# Altium footprint library Resistors.PcbLib: 73 footprints (part 2 of 5)
Each footprint in its own frame and in the unit in brackets; x right, y up, seen from the top. Pads: shape width x height; smd on the part's side, far side on the other; paste and mask are expansions set on the pad; w line width, h text height; cw(c..) or ccw(c..) is an arc to the next point about the centre after c.
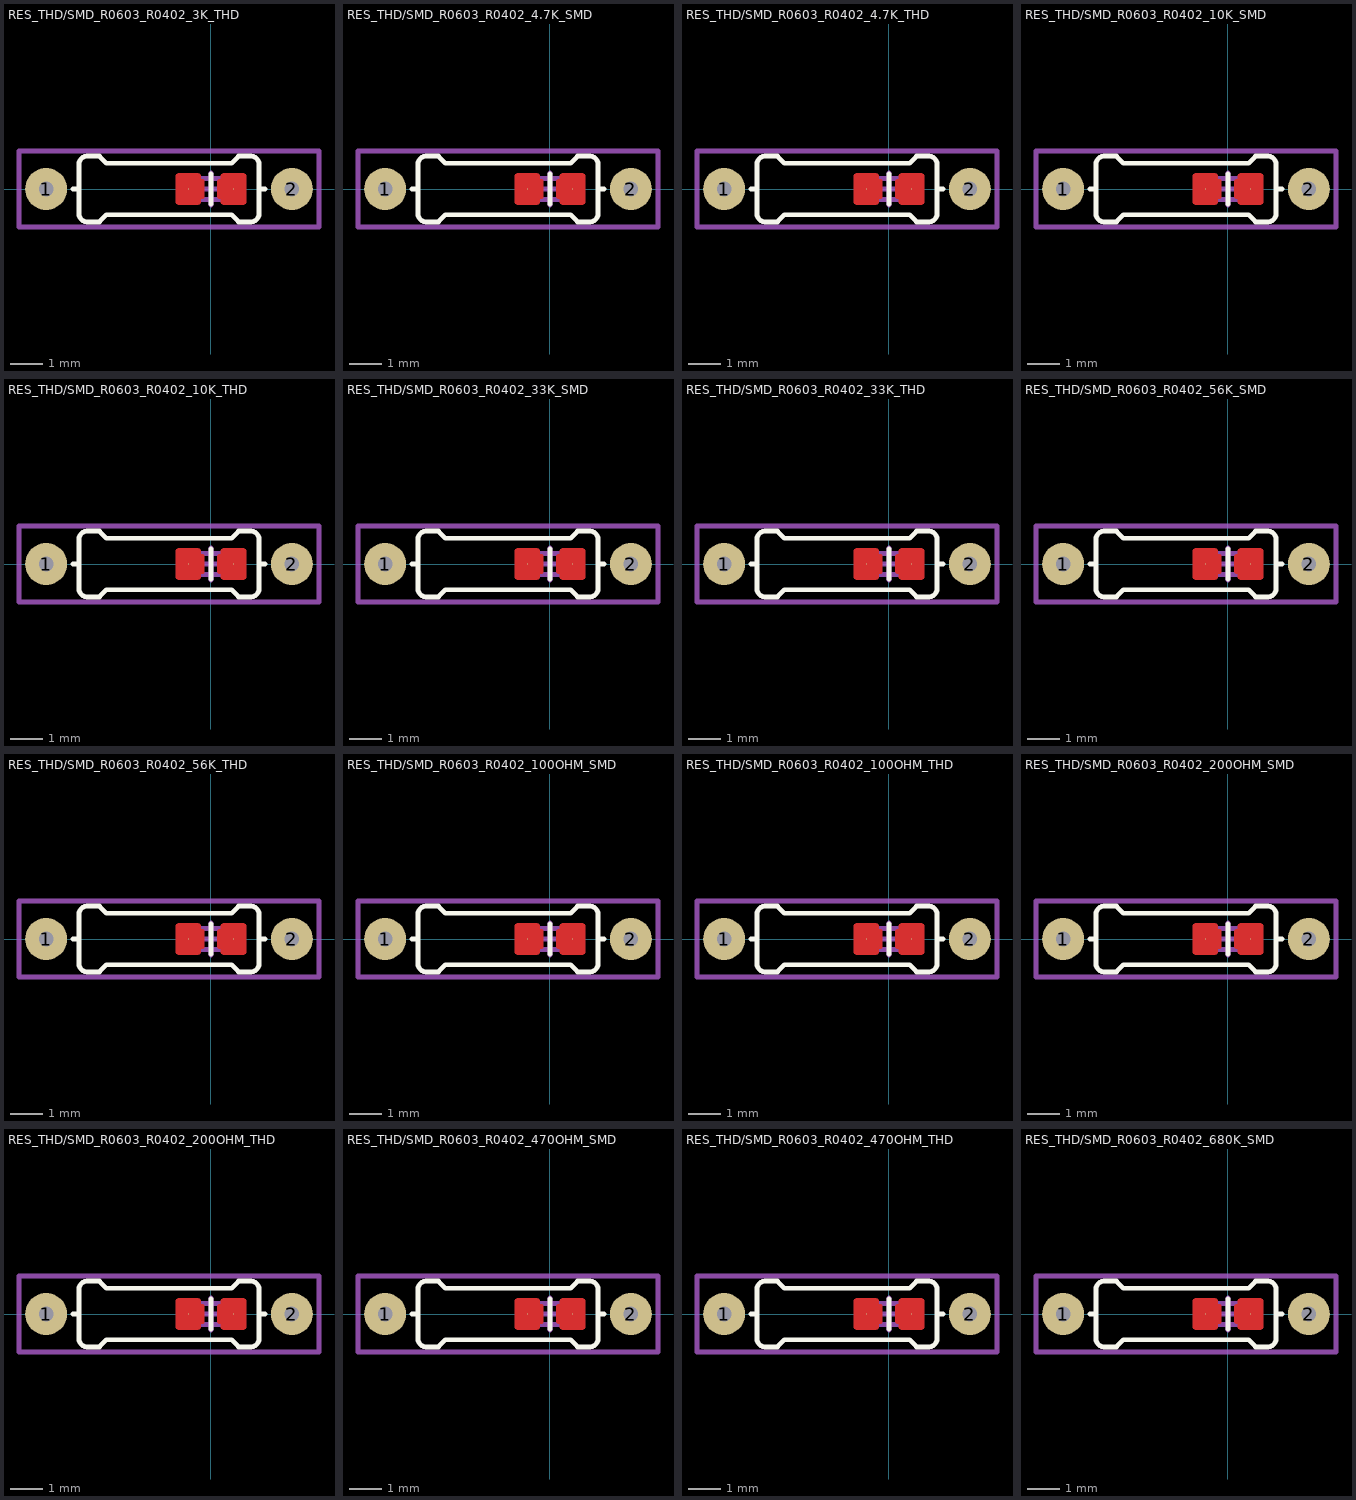
[diagram p1: the footprints below, top view; thin cyan lines are the x and y axes]

## RES_THD/SMD_R0603_R0402_3K_THD [mm] "Resistor, Through Hole"
pads (4):
  round 1.3 hole 0.45: 1(-5.11,0) 2(2.51,0)
  round 0.025 smd: 1(-0.7,0) 2(0.7,0)
Top Layer:
  region: 0.408,-0.495 0.993,-0.495 1.012,-0.495 1.048,-0.48 1.075,-0.453 1.09,-0.417 1.09,-0.398 1.09,-0.397 1.09,0.397 1.09,0.417 1.075,0.453 1.048,0.48 1.012,0.495 0.993,0.495 0.408,0.495 0.388,0.495 0.352,0.48 0.325,0.453 0.31,0.417 0.31,0.397 0.31,0.3 0.25,0.3 0.24,0.3 0.222,0.292 0.208,0.278 0.2,0.26 0.2,0.25 0.2,-0.25 0.2,-0.26 0.208,-0.278 0.222,-0.292 0.24,-0.3 0.25,-0.3 0.31,-0.3 0.31,-0.397 0.31,-0.417 0.325,-0.453 0.352,-0.48 0.388,-0.495
  region: -0.408,-0.495 -0.992,-0.495 -1.012,-0.495 -1.048,-0.48 -1.075,-0.453 -1.09,-0.417 -1.09,-0.398 -1.09,-0.397 -1.09,0.397 -1.09,0.417 -1.075,0.453 -1.048,0.48 -1.012,0.495 -0.993,0.495 -0.992,0.495 -0.407,0.495 -0.388,0.495 -0.352,0.48 -0.325,0.453 -0.31,0.417 -0.31,0.397 -0.31,0.3 -0.25,0.3 -0.24,0.3 -0.222,0.292 -0.208,0.278 -0.2,0.26 -0.2,0.25 -0.2,-0.25 -0.2,-0.26 -0.208,-0.278 -0.222,-0.292 -0.24,-0.3 -0.25,-0.3 -0.31,-0.3 -0.31,-0.397 -0.31,-0.417 -0.325,-0.453 -0.352,-0.48 -0.388,-0.495
Top Overlay:
  lines w0.15: -4.275,0 -4.14,0 ; 0,-0.475 0,0.475 ; 1.54,0 1.675,0 ; -4.092,-0.764 ccw(c-3.838,-0.764) -3.838,-1.018 -3.457,-1.018 -3.239,-0.8 0.639,-0.8 0.857,-1.018 1.238,-1.018 ccw(c1.238,-0.764) 1.492,-0.764 1.492,0.764 ccw(c1.238,0.764) 1.238,1.018 0.857,1.018 0.639,0.8 -3.239,0.8 -3.457,1.018 -3.838,1.018 ccw(c-3.838,0.764) -4.092,0.764 -4.092,-0.764
  text ".Comment" at -4.487,-0.383 h1.3
Top Designator:
  text ".Designator" at -2.503,-0.266 h1.3
Mechanical 13:
  lines w0.15: -0.7,-0.325 -0.7,0.325 0.7,0.325 0.7,-0.325 -0.7,-0.325
Mechanical 15:
  lines w0.003: -0.275,0.127 -0.274,0.127
  lines w0.15: -0.5,0 0.5,0 ; 0,-0.5 0,0.5 ; -5.95,-1.175 -5.95,1.175 3.35,1.175 3.35,-1.175 -5.95,-1.175
3D body "Ðåçèñòîð Âûâîäíîé Ãîðèçîíòàëüíûé 3 êÎì.stp": height 2.41, standoff -1.5, extent -5.325,-1.167 2.725,1.167

## RES_THD/SMD_R0603_R0402_4.7K_SMD [mm] "Resistor, Through Hole"
pads (4):
  round 1.3 hole 0.45: 1(-5.11,0) 2(2.51,0)
  round 0.025 smd: 1(-0.7,0) 2(0.7,0)
Top Layer:
  region: 0.408,-0.495 0.993,-0.495 1.012,-0.495 1.048,-0.48 1.075,-0.453 1.09,-0.417 1.09,-0.398 1.09,-0.397 1.09,0.397 1.09,0.417 1.075,0.453 1.048,0.48 1.012,0.495 0.993,0.495 0.408,0.495 0.388,0.495 0.352,0.48 0.325,0.453 0.31,0.417 0.31,0.397 0.31,0.3 0.25,0.3 0.24,0.3 0.222,0.292 0.208,0.278 0.2,0.26 0.2,0.25 0.2,-0.25 0.2,-0.26 0.208,-0.278 0.222,-0.292 0.24,-0.3 0.25,-0.3 0.31,-0.3 0.31,-0.397 0.31,-0.417 0.325,-0.453 0.352,-0.48 0.388,-0.495
  region: -0.408,-0.495 -0.992,-0.495 -1.012,-0.495 -1.048,-0.48 -1.075,-0.453 -1.09,-0.417 -1.09,-0.398 -1.09,-0.397 -1.09,0.397 -1.09,0.417 -1.075,0.453 -1.048,0.48 -1.012,0.495 -0.993,0.495 -0.992,0.495 -0.407,0.495 -0.388,0.495 -0.352,0.48 -0.325,0.453 -0.31,0.417 -0.31,0.397 -0.31,0.3 -0.25,0.3 -0.24,0.3 -0.222,0.292 -0.208,0.278 -0.2,0.26 -0.2,0.25 -0.2,-0.25 -0.2,-0.26 -0.208,-0.278 -0.222,-0.292 -0.24,-0.3 -0.25,-0.3 -0.31,-0.3 -0.31,-0.397 -0.31,-0.417 -0.325,-0.453 -0.352,-0.48 -0.388,-0.495
Top Overlay:
  lines w0.15: -4.275,0 -4.14,0 ; 0,-0.475 0,0.475 ; 1.54,0 1.675,0 ; -4.092,-0.764 ccw(c-3.838,-0.764) -3.838,-1.018 -3.457,-1.018 -3.239,-0.8 0.639,-0.8 0.857,-1.018 1.238,-1.018 ccw(c1.238,-0.764) 1.492,-0.764 1.492,0.764 ccw(c1.238,0.764) 1.238,1.018 0.857,1.018 0.639,0.8 -3.239,0.8 -3.457,1.018 -3.838,1.018 ccw(c-3.838,0.764) -4.092,0.764 -4.092,-0.764
  text ".Comment" at -4.487,-0.383 h1.3
Top Designator:
  text ".Designator" at -2.503,-0.266 h1.3
Mechanical 13:
  lines w0.15: -0.7,-0.325 -0.7,0.325 0.7,0.325 0.7,-0.325 -0.7,-0.325
Mechanical 15:
  lines w0.003: -0.275,0.127 -0.274,0.127
  lines w0.15: -0.5,0 0.5,0 ; 0,-0.5 0,0.5 ; -5.95,-1.175 -5.95,1.175 3.35,1.175 3.35,-1.175 -5.95,-1.175
3D body "4.7K.x_t": height 0.46, standoff 0, extent -0.8,-0.4 0.8,0.4

## RES_THD/SMD_R0603_R0402_4.7K_THD [mm] "Resistor, Through Hole"
pads (4):
  round 1.3 hole 0.45: 1(-5.11,0) 2(2.51,0)
  round 0.025 smd: 1(-0.7,0) 2(0.7,0)
Top Layer:
  region: 0.408,-0.495 0.993,-0.495 1.012,-0.495 1.048,-0.48 1.075,-0.453 1.09,-0.417 1.09,-0.398 1.09,-0.397 1.09,0.397 1.09,0.417 1.075,0.453 1.048,0.48 1.012,0.495 0.993,0.495 0.408,0.495 0.388,0.495 0.352,0.48 0.325,0.453 0.31,0.417 0.31,0.397 0.31,0.3 0.25,0.3 0.24,0.3 0.222,0.292 0.208,0.278 0.2,0.26 0.2,0.25 0.2,-0.25 0.2,-0.26 0.208,-0.278 0.222,-0.292 0.24,-0.3 0.25,-0.3 0.31,-0.3 0.31,-0.397 0.31,-0.417 0.325,-0.453 0.352,-0.48 0.388,-0.495
  region: -0.408,-0.495 -0.992,-0.495 -1.012,-0.495 -1.048,-0.48 -1.075,-0.453 -1.09,-0.417 -1.09,-0.398 -1.09,-0.397 -1.09,0.397 -1.09,0.417 -1.075,0.453 -1.048,0.48 -1.012,0.495 -0.993,0.495 -0.992,0.495 -0.407,0.495 -0.388,0.495 -0.352,0.48 -0.325,0.453 -0.31,0.417 -0.31,0.397 -0.31,0.3 -0.25,0.3 -0.24,0.3 -0.222,0.292 -0.208,0.278 -0.2,0.26 -0.2,0.25 -0.2,-0.25 -0.2,-0.26 -0.208,-0.278 -0.222,-0.292 -0.24,-0.3 -0.25,-0.3 -0.31,-0.3 -0.31,-0.397 -0.31,-0.417 -0.325,-0.453 -0.352,-0.48 -0.388,-0.495
Top Overlay:
  lines w0.15: -4.275,0 -4.14,0 ; 0,-0.475 0,0.475 ; 1.54,0 1.675,0 ; -4.092,-0.764 ccw(c-3.838,-0.764) -3.838,-1.018 -3.457,-1.018 -3.239,-0.8 0.639,-0.8 0.857,-1.018 1.238,-1.018 ccw(c1.238,-0.764) 1.492,-0.764 1.492,0.764 ccw(c1.238,0.764) 1.238,1.018 0.857,1.018 0.639,0.8 -3.239,0.8 -3.457,1.018 -3.838,1.018 ccw(c-3.838,0.764) -4.092,0.764 -4.092,-0.764
  text ".Comment" at -4.487,-0.383 h1.3
Top Designator:
  text ".Designator" at -2.503,-0.266 h1.3
Mechanical 13:
  lines w0.15: -0.7,-0.325 -0.7,0.325 0.7,0.325 0.7,-0.325 -0.7,-0.325
Mechanical 15:
  lines w0.003: -0.275,0.127 -0.274,0.127
  lines w0.15: -0.5,0 0.5,0 ; 0,-0.5 0,0.5 ; -5.95,-1.175 -5.95,1.175 3.35,1.175 3.35,-1.175 -5.95,-1.175
3D body "Ðåçèñòîð Âûâîäíîé Ãîðèçîíòàëüíûé 4.7 êÎì.stp": height 2.41, standoff -1.5, extent -5.325,-1.167 2.725,1.167

## RES_THD/SMD_R0603_R0402_10K_SMD [mm] "Resistor, Through Hole"
pads (4):
  round 1.3 hole 0.45: 1(-5.11,0) 2(2.51,0)
  round 0.025 smd: 1(-0.7,0) 2(0.7,0)
Top Layer:
  region: -0.408,-0.495 -0.992,-0.495 -1.012,-0.495 -1.048,-0.48 -1.075,-0.453 -1.09,-0.417 -1.09,-0.398 -1.09,-0.397 -1.09,0.397 -1.09,0.417 -1.075,0.453 -1.048,0.48 -1.012,0.495 -0.993,0.495 -0.992,0.495 -0.407,0.495 -0.388,0.495 -0.352,0.48 -0.325,0.453 -0.31,0.417 -0.31,0.397 -0.31,0.3 -0.25,0.3 -0.24,0.3 -0.222,0.292 -0.208,0.278 -0.2,0.26 -0.2,0.25 -0.2,-0.25 -0.2,-0.26 -0.208,-0.278 -0.222,-0.292 -0.24,-0.3 -0.25,-0.3 -0.31,-0.3 -0.31,-0.397 -0.31,-0.417 -0.325,-0.453 -0.352,-0.48 -0.388,-0.495
  region: 0.408,-0.495 0.993,-0.495 1.012,-0.495 1.048,-0.48 1.075,-0.453 1.09,-0.417 1.09,-0.398 1.09,-0.397 1.09,0.397 1.09,0.417 1.075,0.453 1.048,0.48 1.012,0.495 0.993,0.495 0.408,0.495 0.388,0.495 0.352,0.48 0.325,0.453 0.31,0.417 0.31,0.397 0.31,0.3 0.25,0.3 0.24,0.3 0.222,0.292 0.208,0.278 0.2,0.26 0.2,0.25 0.2,-0.25 0.2,-0.26 0.208,-0.278 0.222,-0.292 0.24,-0.3 0.25,-0.3 0.31,-0.3 0.31,-0.397 0.31,-0.417 0.325,-0.453 0.352,-0.48 0.388,-0.495
Top Overlay:
  lines w0.15: -4.275,0 -4.14,0 ; 0,-0.475 0,0.475 ; 1.54,0 1.675,0 ; -4.092,-0.764 ccw(c-3.838,-0.764) -3.838,-1.018 -3.457,-1.018 -3.239,-0.8 0.639,-0.8 0.857,-1.018 1.238,-1.018 ccw(c1.238,-0.764) 1.492,-0.764 1.492,0.764 ccw(c1.238,0.764) 1.238,1.018 0.857,1.018 0.639,0.8 -3.239,0.8 -3.457,1.018 -3.838,1.018 ccw(c-3.838,0.764) -4.092,0.764 -4.092,-0.764
  text ".Comment" at -4.487,-0.383 h1.3
Top Designator:
  text ".Designator" at -2.503,-0.266 h1.3
Mechanical 13:
  lines w0.15: -0.7,-0.325 0.7,-0.325 0.7,0.325 -0.7,0.325 -0.7,-0.325
Mechanical 15:
  lines w0.003: -0.275,0.127 -0.274,0.127
  lines w0.15: -0.5,0 0.5,0 ; 0,-0.5 0,0.5 ; -5.95,-1.175 3.35,-1.175 3.35,1.175 -5.95,1.175 -5.95,-1.175
3D body "10K.x_t": height 0.46, standoff 0, extent -0.8,-0.4 0.8,0.4

## RES_THD/SMD_R0603_R0402_10K_THD [mm] "Resistor, Through Hole"
pads (4):
  round 1.3 hole 0.45: 1(-5.11,0) 2(2.51,0)
  round 0.025 smd: 1(-0.7,0) 2(0.7,0)
Top Layer:
  region: -0.408,-0.495 -0.992,-0.495 -1.012,-0.495 -1.048,-0.48 -1.075,-0.453 -1.09,-0.417 -1.09,-0.398 -1.09,-0.397 -1.09,0.397 -1.09,0.417 -1.075,0.453 -1.048,0.48 -1.012,0.495 -0.993,0.495 -0.992,0.495 -0.407,0.495 -0.388,0.495 -0.352,0.48 -0.325,0.453 -0.31,0.417 -0.31,0.397 -0.31,0.3 -0.25,0.3 -0.24,0.3 -0.222,0.292 -0.208,0.278 -0.2,0.26 -0.2,0.25 -0.2,-0.25 -0.2,-0.26 -0.208,-0.278 -0.222,-0.292 -0.24,-0.3 -0.25,-0.3 -0.31,-0.3 -0.31,-0.397 -0.31,-0.417 -0.325,-0.453 -0.352,-0.48 -0.388,-0.495
  region: 0.408,-0.495 0.993,-0.495 1.012,-0.495 1.048,-0.48 1.075,-0.453 1.09,-0.417 1.09,-0.398 1.09,-0.397 1.09,0.397 1.09,0.417 1.075,0.453 1.048,0.48 1.012,0.495 0.993,0.495 0.408,0.495 0.388,0.495 0.352,0.48 0.325,0.453 0.31,0.417 0.31,0.397 0.31,0.3 0.25,0.3 0.24,0.3 0.222,0.292 0.208,0.278 0.2,0.26 0.2,0.25 0.2,-0.25 0.2,-0.26 0.208,-0.278 0.222,-0.292 0.24,-0.3 0.25,-0.3 0.31,-0.3 0.31,-0.397 0.31,-0.417 0.325,-0.453 0.352,-0.48 0.388,-0.495
Top Overlay:
  lines w0.15: -4.275,0 -4.14,0 ; 0,-0.475 0,0.475 ; 1.54,0 1.675,0 ; -4.092,-0.764 ccw(c-3.838,-0.764) -3.838,-1.018 -3.457,-1.018 -3.239,-0.8 0.639,-0.8 0.857,-1.018 1.238,-1.018 ccw(c1.238,-0.764) 1.492,-0.764 1.492,0.764 ccw(c1.238,0.764) 1.238,1.018 0.857,1.018 0.639,0.8 -3.239,0.8 -3.457,1.018 -3.838,1.018 ccw(c-3.838,0.764) -4.092,0.764 -4.092,-0.764
  text ".Comment" at -4.487,-0.383 h1.3
Top Designator:
  text ".Designator" at -2.503,-0.266 h1.3
Mechanical 13:
  lines w0.15: -0.7,-0.325 0.7,-0.325 0.7,0.325 -0.7,0.325 -0.7,-0.325
Mechanical 15:
  lines w0.003: -0.275,0.127 -0.274,0.127
  lines w0.15: -0.5,0 0.5,0 ; 0,-0.5 0,0.5 ; -5.95,-1.175 3.35,-1.175 3.35,1.175 -5.95,1.175 -5.95,-1.175
3D body "Ðåçèñòîð Âûâîäíîé Ãîðèçîíòàëüíûé 10 êÎì.stp": height 2.41, standoff -1.5, extent -5.325,-1.167 2.725,1.167

## RES_THD/SMD_R0603_R0402_33K_SMD [mm] "Resistor, Through Hole"
pads (4):
  round 1.3 hole 0.45: 1(-5.11,0) 2(2.51,0)
  round 0.025 smd: 1(-0.7,0) 2(0.7,0)
Top Layer:
  region: -0.408,-0.495 -0.992,-0.495 -1.012,-0.495 -1.048,-0.48 -1.075,-0.453 -1.09,-0.417 -1.09,-0.398 -1.09,-0.397 -1.09,0.397 -1.09,0.417 -1.075,0.453 -1.048,0.48 -1.012,0.495 -0.993,0.495 -0.992,0.495 -0.407,0.495 -0.388,0.495 -0.352,0.48 -0.325,0.453 -0.31,0.417 -0.31,0.397 -0.31,0.3 -0.25,0.3 -0.24,0.3 -0.222,0.292 -0.208,0.278 -0.2,0.26 -0.2,0.25 -0.2,-0.25 -0.2,-0.26 -0.208,-0.278 -0.222,-0.292 -0.24,-0.3 -0.25,-0.3 -0.31,-0.3 -0.31,-0.397 -0.31,-0.417 -0.325,-0.453 -0.352,-0.48 -0.388,-0.495
  region: 0.408,-0.495 0.993,-0.495 1.012,-0.495 1.048,-0.48 1.075,-0.453 1.09,-0.417 1.09,-0.398 1.09,-0.397 1.09,0.397 1.09,0.417 1.075,0.453 1.048,0.48 1.012,0.495 0.993,0.495 0.408,0.495 0.388,0.495 0.352,0.48 0.325,0.453 0.31,0.417 0.31,0.397 0.31,0.3 0.25,0.3 0.24,0.3 0.222,0.292 0.208,0.278 0.2,0.26 0.2,0.25 0.2,-0.25 0.2,-0.26 0.208,-0.278 0.222,-0.292 0.24,-0.3 0.25,-0.3 0.31,-0.3 0.31,-0.397 0.31,-0.417 0.325,-0.453 0.352,-0.48 0.388,-0.495
Top Overlay:
  lines w0.15: -4.275,0 -4.14,0 ; 0,-0.475 0,0.475 ; 1.54,0 1.675,0 ; -4.092,-0.764 ccw(c-3.838,-0.764) -3.838,-1.018 -3.457,-1.018 -3.239,-0.8 0.639,-0.8 0.857,-1.018 1.238,-1.018 ccw(c1.238,-0.764) 1.492,-0.764 1.492,0.764 ccw(c1.238,0.764) 1.238,1.018 0.857,1.018 0.639,0.8 -3.239,0.8 -3.457,1.018 -3.838,1.018 ccw(c-3.838,0.764) -4.092,0.764 -4.092,-0.764
  text ".Comment" at -4.487,-0.383 h1.3
Top Designator:
  text ".Designator" at -2.503,-0.266 h1.3
Mechanical 13:
  lines w0.15: -0.7,-0.325 0.7,-0.325 0.7,0.325 -0.7,0.325 -0.7,-0.325
Mechanical 15:
  lines w0.003: -0.275,0.127 -0.274,0.127
  lines w0.15: -0.5,0 0.5,0 ; 0,-0.5 0,0.5 ; -5.95,-1.175 3.35,-1.175 3.35,1.175 -5.95,1.175 -5.95,-1.175
3D body "33K.x_t": height 0.46, standoff 0, extent -0.8,-0.4 0.8,0.4

## RES_THD/SMD_R0603_R0402_33K_THD [mm] "Resistor, Through Hole"
pads (4):
  round 1.3 hole 0.45: 1(-5.11,0) 2(2.51,0)
  round 0.025 smd: 1(-0.7,0) 2(0.7,0)
Top Layer:
  region: -0.408,-0.495 -0.992,-0.495 -1.012,-0.495 -1.048,-0.48 -1.075,-0.453 -1.09,-0.417 -1.09,-0.398 -1.09,-0.397 -1.09,0.397 -1.09,0.417 -1.075,0.453 -1.048,0.48 -1.012,0.495 -0.993,0.495 -0.992,0.495 -0.407,0.495 -0.388,0.495 -0.352,0.48 -0.325,0.453 -0.31,0.417 -0.31,0.397 -0.31,0.3 -0.25,0.3 -0.24,0.3 -0.222,0.292 -0.208,0.278 -0.2,0.26 -0.2,0.25 -0.2,-0.25 -0.2,-0.26 -0.208,-0.278 -0.222,-0.292 -0.24,-0.3 -0.25,-0.3 -0.31,-0.3 -0.31,-0.397 -0.31,-0.417 -0.325,-0.453 -0.352,-0.48 -0.388,-0.495
  region: 0.408,-0.495 0.993,-0.495 1.012,-0.495 1.048,-0.48 1.075,-0.453 1.09,-0.417 1.09,-0.398 1.09,-0.397 1.09,0.397 1.09,0.417 1.075,0.453 1.048,0.48 1.012,0.495 0.993,0.495 0.408,0.495 0.388,0.495 0.352,0.48 0.325,0.453 0.31,0.417 0.31,0.397 0.31,0.3 0.25,0.3 0.24,0.3 0.222,0.292 0.208,0.278 0.2,0.26 0.2,0.25 0.2,-0.25 0.2,-0.26 0.208,-0.278 0.222,-0.292 0.24,-0.3 0.25,-0.3 0.31,-0.3 0.31,-0.397 0.31,-0.417 0.325,-0.453 0.352,-0.48 0.388,-0.495
Top Overlay:
  lines w0.15: -4.275,0 -4.14,0 ; 0,-0.475 0,0.475 ; 1.54,0 1.675,0 ; -4.092,-0.764 ccw(c-3.838,-0.764) -3.838,-1.018 -3.457,-1.018 -3.239,-0.8 0.639,-0.8 0.857,-1.018 1.238,-1.018 ccw(c1.238,-0.764) 1.492,-0.764 1.492,0.764 ccw(c1.238,0.764) 1.238,1.018 0.857,1.018 0.639,0.8 -3.239,0.8 -3.457,1.018 -3.838,1.018 ccw(c-3.838,0.764) -4.092,0.764 -4.092,-0.764
  text ".Comment" at -4.487,-0.383 h1.3
Top Designator:
  text ".Designator" at -2.503,-0.266 h1.3
Mechanical 13:
  lines w0.15: -0.7,-0.325 0.7,-0.325 0.7,0.325 -0.7,0.325 -0.7,-0.325
Mechanical 15:
  lines w0.003: -0.275,0.127 -0.274,0.127
  lines w0.15: -0.5,0 0.5,0 ; 0,-0.5 0,0.5 ; -5.95,-1.175 3.35,-1.175 3.35,1.175 -5.95,1.175 -5.95,-1.175
3D body "Ðåçèñòîð Âûâîäíîé Ãîðèçîíòàëüíûé 33 êÎì.stp": height 2.41, standoff -1.5, extent -5.325,-1.167 2.725,1.167

## RES_THD/SMD_R0603_R0402_56K_SMD [mm] "Resistor, Through Hole"
pads (4):
  round 1.3 hole 0.45: 1(-5.11,0) 2(2.51,0)
  round 0.025 smd: 1(-0.7,0) 2(0.7,0)
Top Layer:
  region: -0.408,-0.495 -0.992,-0.495 -1.012,-0.495 -1.048,-0.48 -1.075,-0.453 -1.09,-0.417 -1.09,-0.398 -1.09,-0.397 -1.09,0.397 -1.09,0.417 -1.075,0.453 -1.048,0.48 -1.012,0.495 -0.993,0.495 -0.992,0.495 -0.407,0.495 -0.388,0.495 -0.352,0.48 -0.325,0.453 -0.31,0.417 -0.31,0.397 -0.31,0.3 -0.25,0.3 -0.24,0.3 -0.222,0.292 -0.208,0.278 -0.2,0.26 -0.2,0.25 -0.2,-0.25 -0.2,-0.26 -0.208,-0.278 -0.222,-0.292 -0.24,-0.3 -0.25,-0.3 -0.31,-0.3 -0.31,-0.397 -0.31,-0.417 -0.325,-0.453 -0.352,-0.48 -0.388,-0.495
  region: 0.408,-0.495 0.993,-0.495 1.012,-0.495 1.048,-0.48 1.075,-0.453 1.09,-0.417 1.09,-0.398 1.09,-0.397 1.09,0.397 1.09,0.417 1.075,0.453 1.048,0.48 1.012,0.495 0.993,0.495 0.408,0.495 0.388,0.495 0.352,0.48 0.325,0.453 0.31,0.417 0.31,0.397 0.31,0.3 0.25,0.3 0.24,0.3 0.222,0.292 0.208,0.278 0.2,0.26 0.2,0.25 0.2,-0.25 0.2,-0.26 0.208,-0.278 0.222,-0.292 0.24,-0.3 0.25,-0.3 0.31,-0.3 0.31,-0.397 0.31,-0.417 0.325,-0.453 0.352,-0.48 0.388,-0.495
Top Overlay:
  lines w0.15: -4.275,0 -4.14,0 ; 0,-0.475 0,0.475 ; 1.54,0 1.675,0 ; -4.092,-0.764 ccw(c-3.838,-0.764) -3.838,-1.018 -3.457,-1.018 -3.239,-0.8 0.639,-0.8 0.857,-1.018 1.238,-1.018 ccw(c1.238,-0.764) 1.492,-0.764 1.492,0.764 ccw(c1.238,0.764) 1.238,1.018 0.857,1.018 0.639,0.8 -3.239,0.8 -3.457,1.018 -3.838,1.018 ccw(c-3.838,0.764) -4.092,0.764 -4.092,-0.764
  text ".Comment" at -4.487,-0.383 h1.3
Top Designator:
  text ".Designator" at -2.503,-0.266 h1.3
Mechanical 13:
  lines w0.15: -0.7,-0.325 0.7,-0.325 0.7,0.325 -0.7,0.325 -0.7,-0.325
Mechanical 15:
  lines w0.003: -0.275,0.127 -0.274,0.127
  lines w0.15: -0.5,0 0.5,0 ; 0,-0.5 0,0.5 ; -5.95,-1.175 3.35,-1.175 3.35,1.175 -5.95,1.175 -5.95,-1.175
3D body "56K.x_t": height 0.46, standoff 0, extent -0.8,-0.4 0.8,0.4

## RES_THD/SMD_R0603_R0402_56K_THD [mm] "Resistor, Through Hole"
pads (4):
  round 1.3 hole 0.45: 1(-5.11,0) 2(2.51,0)
  round 0.025 smd: 1(-0.7,0) 2(0.7,0)
Top Layer:
  region: -0.408,-0.495 -0.992,-0.495 -1.012,-0.495 -1.048,-0.48 -1.075,-0.453 -1.09,-0.417 -1.09,-0.398 -1.09,-0.397 -1.09,0.397 -1.09,0.417 -1.075,0.453 -1.048,0.48 -1.012,0.495 -0.993,0.495 -0.992,0.495 -0.407,0.495 -0.388,0.495 -0.352,0.48 -0.325,0.453 -0.31,0.417 -0.31,0.397 -0.31,0.3 -0.25,0.3 -0.24,0.3 -0.222,0.292 -0.208,0.278 -0.2,0.26 -0.2,0.25 -0.2,-0.25 -0.2,-0.26 -0.208,-0.278 -0.222,-0.292 -0.24,-0.3 -0.25,-0.3 -0.31,-0.3 -0.31,-0.397 -0.31,-0.417 -0.325,-0.453 -0.352,-0.48 -0.388,-0.495
  region: 0.408,-0.495 0.993,-0.495 1.012,-0.495 1.048,-0.48 1.075,-0.453 1.09,-0.417 1.09,-0.398 1.09,-0.397 1.09,0.397 1.09,0.417 1.075,0.453 1.048,0.48 1.012,0.495 0.993,0.495 0.408,0.495 0.388,0.495 0.352,0.48 0.325,0.453 0.31,0.417 0.31,0.397 0.31,0.3 0.25,0.3 0.24,0.3 0.222,0.292 0.208,0.278 0.2,0.26 0.2,0.25 0.2,-0.25 0.2,-0.26 0.208,-0.278 0.222,-0.292 0.24,-0.3 0.25,-0.3 0.31,-0.3 0.31,-0.397 0.31,-0.417 0.325,-0.453 0.352,-0.48 0.388,-0.495
Top Overlay:
  lines w0.15: -4.275,0 -4.14,0 ; 0,-0.475 0,0.475 ; 1.54,0 1.675,0 ; -4.092,-0.764 ccw(c-3.838,-0.764) -3.838,-1.018 -3.457,-1.018 -3.239,-0.8 0.639,-0.8 0.857,-1.018 1.238,-1.018 ccw(c1.238,-0.764) 1.492,-0.764 1.492,0.764 ccw(c1.238,0.764) 1.238,1.018 0.857,1.018 0.639,0.8 -3.239,0.8 -3.457,1.018 -3.838,1.018 ccw(c-3.838,0.764) -4.092,0.764 -4.092,-0.764
  text ".Comment" at -4.487,-0.383 h1.3
Top Designator:
  text ".Designator" at -2.503,-0.266 h1.3
Mechanical 13:
  lines w0.15: -0.7,-0.325 0.7,-0.325 0.7,0.325 -0.7,0.325 -0.7,-0.325
Mechanical 15:
  lines w0.003: -0.275,0.127 -0.274,0.127
  lines w0.15: -0.5,0 0.5,0 ; 0,-0.5 0,0.5 ; -5.95,-1.175 3.35,-1.175 3.35,1.175 -5.95,1.175 -5.95,-1.175
3D body "Ðåçèñòîð Âûâîäíîé Ãîðèçîíòàëüíûé 56 êÎì.stp": height 2.41, standoff -1.5, extent -5.325,-1.167 2.725,1.167

## RES_THD/SMD_R0603_R0402_100OHM_SMD [mm] "Resistor, Through Hole"
pads (4):
  round 1.3 hole 0.45: 1(-5.11,0) 2(2.51,0)
  round 0.025 smd: 1(-0.7,0) 2(0.7,0)
Top Layer:
  region: -0.408,-0.495 -0.992,-0.495 -1.012,-0.495 -1.048,-0.48 -1.075,-0.453 -1.09,-0.417 -1.09,-0.398 -1.09,-0.397 -1.09,0.397 -1.09,0.417 -1.075,0.453 -1.048,0.48 -1.012,0.495 -0.993,0.495 -0.992,0.495 -0.407,0.495 -0.388,0.495 -0.352,0.48 -0.325,0.453 -0.31,0.417 -0.31,0.397 -0.31,0.3 -0.25,0.3 -0.24,0.3 -0.222,0.292 -0.208,0.278 -0.2,0.26 -0.2,0.25 -0.2,-0.25 -0.2,-0.26 -0.208,-0.278 -0.222,-0.292 -0.24,-0.3 -0.25,-0.3 -0.31,-0.3 -0.31,-0.397 -0.31,-0.417 -0.325,-0.453 -0.352,-0.48 -0.388,-0.495
  region: 0.408,-0.495 0.993,-0.495 1.012,-0.495 1.048,-0.48 1.075,-0.453 1.09,-0.417 1.09,-0.398 1.09,-0.397 1.09,0.397 1.09,0.417 1.075,0.453 1.048,0.48 1.012,0.495 0.993,0.495 0.408,0.495 0.388,0.495 0.352,0.48 0.325,0.453 0.31,0.417 0.31,0.397 0.31,0.3 0.25,0.3 0.24,0.3 0.222,0.292 0.208,0.278 0.2,0.26 0.2,0.25 0.2,-0.25 0.2,-0.26 0.208,-0.278 0.222,-0.292 0.24,-0.3 0.25,-0.3 0.31,-0.3 0.31,-0.397 0.31,-0.417 0.325,-0.453 0.352,-0.48 0.388,-0.495
Top Overlay:
  lines w0.15: -4.275,0 -4.14,0 ; 0,-0.475 0,0.475 ; 1.54,0 1.675,0 ; -4.092,-0.764 ccw(c-3.838,-0.764) -3.838,-1.018 -3.457,-1.018 -3.239,-0.8 0.639,-0.8 0.857,-1.018 1.238,-1.018 ccw(c1.238,-0.764) 1.492,-0.764 1.492,0.764 ccw(c1.238,0.764) 1.238,1.018 0.857,1.018 0.639,0.8 -3.239,0.8 -3.457,1.018 -3.838,1.018 ccw(c-3.838,0.764) -4.092,0.764 -4.092,-0.764
  text ".Comment" at -4.487,-0.383 h1.3
Top Designator:
  text ".Designator" at -2.503,-0.266 h1.3
Mechanical 13:
  lines w0.15: -0.7,-0.325 0.7,-0.325 0.7,0.325 -0.7,0.325 -0.7,-0.325
Mechanical 15:
  lines w0.003: -0.275,0.127 -0.274,0.127
  lines w0.15: -0.5,0 0.5,0 ; 0,-0.5 0,0.5 ; -5.95,-1.175 3.35,-1.175 3.35,1.175 -5.95,1.175 -5.95,-1.175
3D body "100 ohm.x_t": height 0.46, standoff 0, extent -0.8,-0.4 0.8,0.4

## RES_THD/SMD_R0603_R0402_100OHM_THD [mm] "Resistor, Through Hole"
pads (4):
  round 1.3 hole 0.45: 1(-5.11,0) 2(2.51,0)
  round 0.025 smd: 1(-0.7,0) 2(0.7,0)
Top Layer:
  region: 0.408,-0.495 0.993,-0.495 1.012,-0.495 1.048,-0.48 1.075,-0.453 1.09,-0.417 1.09,-0.398 1.09,-0.397 1.09,0.397 1.09,0.417 1.075,0.453 1.048,0.48 1.012,0.495 0.993,0.495 0.408,0.495 0.388,0.495 0.352,0.48 0.325,0.453 0.31,0.417 0.31,0.397 0.31,0.3 0.25,0.3 0.24,0.3 0.222,0.292 0.208,0.278 0.2,0.26 0.2,0.25 0.2,-0.25 0.2,-0.26 0.208,-0.278 0.222,-0.292 0.24,-0.3 0.25,-0.3 0.31,-0.3 0.31,-0.397 0.31,-0.417 0.325,-0.453 0.352,-0.48 0.388,-0.495
  region: -0.408,-0.495 -0.992,-0.495 -1.012,-0.495 -1.048,-0.48 -1.075,-0.453 -1.09,-0.417 -1.09,-0.398 -1.09,-0.397 -1.09,0.397 -1.09,0.417 -1.075,0.453 -1.048,0.48 -1.012,0.495 -0.993,0.495 -0.992,0.495 -0.407,0.495 -0.388,0.495 -0.352,0.48 -0.325,0.453 -0.31,0.417 -0.31,0.397 -0.31,0.3 -0.25,0.3 -0.24,0.3 -0.222,0.292 -0.208,0.278 -0.2,0.26 -0.2,0.25 -0.2,-0.25 -0.2,-0.26 -0.208,-0.278 -0.222,-0.292 -0.24,-0.3 -0.25,-0.3 -0.31,-0.3 -0.31,-0.397 -0.31,-0.417 -0.325,-0.453 -0.352,-0.48 -0.388,-0.495
Top Overlay:
  lines w0.15: -4.275,0 -4.14,0 ; 0,-0.475 0,0.475 ; 1.54,0 1.675,0 ; -4.092,-0.764 ccw(c-3.838,-0.764) -3.838,-1.018 -3.457,-1.018 -3.239,-0.8 0.639,-0.8 0.857,-1.018 1.238,-1.018 ccw(c1.238,-0.764) 1.492,-0.764 1.492,0.764 ccw(c1.238,0.764) 1.238,1.018 0.857,1.018 0.639,0.8 -3.239,0.8 -3.457,1.018 -3.838,1.018 ccw(c-3.838,0.764) -4.092,0.764 -4.092,-0.764
  text ".Comment" at -4.487,-0.383 h1.3
Top Designator:
  text ".Designator" at -2.503,-0.266 h1.3
Mechanical 13:
  lines w0.15: -0.7,-0.325 -0.7,0.325 0.7,0.325 0.7,-0.325 -0.7,-0.325
Mechanical 15:
  lines w0.003: -0.275,0.127 -0.274,0.127
  lines w0.15: -0.5,0 0.5,0 ; 0,-0.5 0,0.5 ; -5.95,-1.175 -5.95,1.175 3.35,1.175 3.35,-1.175 -5.95,-1.175
3D body "Ðåçèñòîð Âûâîäíîé Ãîðèçîíòàëüíûé 100 Îì.stp": height 2.41, standoff -1.5, extent -5.325,-1.167 2.725,1.167

## RES_THD/SMD_R0603_R0402_200OHM_SMD [mm] "Resistor, Through Hole"
pads (4):
  round 1.3 hole 0.45: 1(-5.11,0) 2(2.51,0)
  round 0.025 smd: 1(-0.7,0) 2(0.7,0)
Top Layer:
  region: -0.408,-0.495 -0.992,-0.495 -1.012,-0.495 -1.048,-0.48 -1.075,-0.453 -1.09,-0.417 -1.09,-0.398 -1.09,-0.397 -1.09,0.397 -1.09,0.417 -1.075,0.453 -1.048,0.48 -1.012,0.495 -0.993,0.495 -0.992,0.495 -0.407,0.495 -0.388,0.495 -0.352,0.48 -0.325,0.453 -0.31,0.417 -0.31,0.397 -0.31,0.3 -0.25,0.3 -0.24,0.3 -0.222,0.292 -0.208,0.278 -0.2,0.26 -0.2,0.25 -0.2,-0.25 -0.2,-0.26 -0.208,-0.278 -0.222,-0.292 -0.24,-0.3 -0.25,-0.3 -0.31,-0.3 -0.31,-0.397 -0.31,-0.417 -0.325,-0.453 -0.352,-0.48 -0.388,-0.495
  region: 0.408,-0.495 0.993,-0.495 1.012,-0.495 1.048,-0.48 1.075,-0.453 1.09,-0.417 1.09,-0.398 1.09,-0.397 1.09,0.397 1.09,0.417 1.075,0.453 1.048,0.48 1.012,0.495 0.993,0.495 0.408,0.495 0.388,0.495 0.352,0.48 0.325,0.453 0.31,0.417 0.31,0.397 0.31,0.3 0.25,0.3 0.24,0.3 0.222,0.292 0.208,0.278 0.2,0.26 0.2,0.25 0.2,-0.25 0.2,-0.26 0.208,-0.278 0.222,-0.292 0.24,-0.3 0.25,-0.3 0.31,-0.3 0.31,-0.397 0.31,-0.417 0.325,-0.453 0.352,-0.48 0.388,-0.495
Top Overlay:
  lines w0.15: -4.275,0 -4.14,0 ; 0,-0.475 0,0.475 ; 1.54,0 1.675,0 ; -4.092,-0.764 ccw(c-3.838,-0.764) -3.838,-1.018 -3.457,-1.018 -3.239,-0.8 0.639,-0.8 0.857,-1.018 1.238,-1.018 ccw(c1.238,-0.764) 1.492,-0.764 1.492,0.764 ccw(c1.238,0.764) 1.238,1.018 0.857,1.018 0.639,0.8 -3.239,0.8 -3.457,1.018 -3.838,1.018 ccw(c-3.838,0.764) -4.092,0.764 -4.092,-0.764
  text ".Comment" at -4.487,-0.383 h1.3
Top Designator:
  text ".Designator" at -2.503,-0.266 h1.3
Mechanical 13:
  lines w0.15: -0.7,-0.325 0.7,-0.325 0.7,0.325 -0.7,0.325 -0.7,-0.325
Mechanical 15:
  lines w0.003: -0.275,0.127 -0.274,0.127
  lines w0.15: -0.5,0 0.5,0 ; 0,-0.5 0,0.5 ; -5.95,-1.175 3.35,-1.175 3.35,1.175 -5.95,1.175 -5.95,-1.175
3D body "R0603 - 200 Ohm.stp": height 0.46, standoff 0, extent -0.8,-0.4 0.8,0.4

## RES_THD/SMD_R0603_R0402_200OHM_THD [mm] "Resistor, Through Hole"
pads (4):
  round 1.3 hole 0.45: 1(-5.11,0) 2(2.51,0)
  round 0.025 smd: 1(-0.7,0) 2(0.7,0)
Top Layer:
  region: -0.408,-0.495 -0.992,-0.495 -1.012,-0.495 -1.048,-0.48 -1.075,-0.453 -1.09,-0.417 -1.09,-0.398 -1.09,-0.397 -1.09,0.397 -1.09,0.417 -1.075,0.453 -1.048,0.48 -1.012,0.495 -0.993,0.495 -0.992,0.495 -0.407,0.495 -0.388,0.495 -0.352,0.48 -0.325,0.453 -0.31,0.417 -0.31,0.397 -0.31,0.3 -0.25,0.3 -0.24,0.3 -0.222,0.292 -0.208,0.278 -0.2,0.26 -0.2,0.25 -0.2,-0.25 -0.2,-0.26 -0.208,-0.278 -0.222,-0.292 -0.24,-0.3 -0.25,-0.3 -0.31,-0.3 -0.31,-0.397 -0.31,-0.417 -0.325,-0.453 -0.352,-0.48 -0.388,-0.495
  region: 0.408,-0.495 0.993,-0.495 1.012,-0.495 1.048,-0.48 1.075,-0.453 1.09,-0.417 1.09,-0.398 1.09,-0.397 1.09,0.397 1.09,0.417 1.075,0.453 1.048,0.48 1.012,0.495 0.993,0.495 0.408,0.495 0.388,0.495 0.352,0.48 0.325,0.453 0.31,0.417 0.31,0.397 0.31,0.3 0.25,0.3 0.24,0.3 0.222,0.292 0.208,0.278 0.2,0.26 0.2,0.25 0.2,-0.25 0.2,-0.26 0.208,-0.278 0.222,-0.292 0.24,-0.3 0.25,-0.3 0.31,-0.3 0.31,-0.397 0.31,-0.417 0.325,-0.453 0.352,-0.48 0.388,-0.495
Top Overlay:
  lines w0.15: -4.275,0 -4.14,0 ; 0,-0.475 0,0.475 ; 1.54,0 1.675,0 ; -4.092,-0.764 ccw(c-3.838,-0.764) -3.838,-1.018 -3.457,-1.018 -3.239,-0.8 0.639,-0.8 0.857,-1.018 1.238,-1.018 ccw(c1.238,-0.764) 1.492,-0.764 1.492,0.764 ccw(c1.238,0.764) 1.238,1.018 0.857,1.018 0.639,0.8 -3.239,0.8 -3.457,1.018 -3.838,1.018 ccw(c-3.838,0.764) -4.092,0.764 -4.092,-0.764
  text ".Comment" at -4.487,-0.383 h1.3
Top Designator:
  text ".Designator" at -2.503,-0.266 h1.3
Mechanical 13:
  lines w0.15: -0.7,-0.325 0.7,-0.325 0.7,0.325 -0.7,0.325 -0.7,-0.325
Mechanical 15:
  lines w0.003: -0.275,0.127 -0.274,0.127
  lines w0.15: -0.5,0 0.5,0 ; 0,-0.5 0,0.5 ; -5.95,-1.175 3.35,-1.175 3.35,1.175 -5.95,1.175 -5.95,-1.175
3D body "Ðåçèñòîð Âûâîäíîé Ãîðèçîíòàëüíûé 200 Îì.stp": height 2.41, standoff -1.5, extent -5.325,-1.167 2.725,1.167

## RES_THD/SMD_R0603_R0402_470OHM_SMD [mm] "Resistor, Through Hole"
pads (4):
  round 1.3 hole 0.45: 1(-5.11,0) 2(2.51,0)
  round 0.025 smd: 1(-0.7,0) 2(0.7,0)
Top Layer:
  region: -0.408,-0.495 -0.992,-0.495 -1.012,-0.495 -1.048,-0.48 -1.075,-0.453 -1.09,-0.417 -1.09,-0.398 -1.09,-0.397 -1.09,0.397 -1.09,0.417 -1.075,0.453 -1.048,0.48 -1.012,0.495 -0.993,0.495 -0.992,0.495 -0.407,0.495 -0.388,0.495 -0.352,0.48 -0.325,0.453 -0.31,0.417 -0.31,0.397 -0.31,0.3 -0.25,0.3 -0.24,0.3 -0.222,0.292 -0.208,0.278 -0.2,0.26 -0.2,0.25 -0.2,-0.25 -0.2,-0.26 -0.208,-0.278 -0.222,-0.292 -0.24,-0.3 -0.25,-0.3 -0.31,-0.3 -0.31,-0.397 -0.31,-0.417 -0.325,-0.453 -0.352,-0.48 -0.388,-0.495
  region: 0.408,-0.495 0.993,-0.495 1.012,-0.495 1.048,-0.48 1.075,-0.453 1.09,-0.417 1.09,-0.398 1.09,-0.397 1.09,0.397 1.09,0.417 1.075,0.453 1.048,0.48 1.012,0.495 0.993,0.495 0.408,0.495 0.388,0.495 0.352,0.48 0.325,0.453 0.31,0.417 0.31,0.397 0.31,0.3 0.25,0.3 0.24,0.3 0.222,0.292 0.208,0.278 0.2,0.26 0.2,0.25 0.2,-0.25 0.2,-0.26 0.208,-0.278 0.222,-0.292 0.24,-0.3 0.25,-0.3 0.31,-0.3 0.31,-0.397 0.31,-0.417 0.325,-0.453 0.352,-0.48 0.388,-0.495
Top Overlay:
  lines w0.15: -4.275,0 -4.14,0 ; 0,-0.475 0,0.475 ; 1.54,0 1.675,0 ; -4.092,-0.764 ccw(c-3.838,-0.764) -3.838,-1.018 -3.457,-1.018 -3.239,-0.8 0.639,-0.8 0.857,-1.018 1.238,-1.018 ccw(c1.238,-0.764) 1.492,-0.764 1.492,0.764 ccw(c1.238,0.764) 1.238,1.018 0.857,1.018 0.639,0.8 -3.239,0.8 -3.457,1.018 -3.838,1.018 ccw(c-3.838,0.764) -4.092,0.764 -4.092,-0.764
  text ".Comment" at -4.487,-0.383 h1.3
Top Designator:
  text ".Designator" at -2.503,-0.266 h1.3
Mechanical 13:
  lines w0.15: -0.7,-0.325 0.7,-0.325 0.7,0.325 -0.7,0.325 -0.7,-0.325
Mechanical 15:
  lines w0.003: -0.275,0.127 -0.274,0.127
  lines w0.15: -0.5,0 0.5,0 ; 0,-0.5 0,0.5 ; -5.95,-1.175 3.35,-1.175 3.35,1.175 -5.95,1.175 -5.95,-1.175
3D body "470 ohm.x_t": height 0.46, standoff 0, extent -0.8,-0.4 0.8,0.4

## RES_THD/SMD_R0603_R0402_470OHM_THD [mm] "Resistor, Through Hole"
pads (4):
  round 1.3 hole 0.45: 1(-5.11,0) 2(2.51,0)
  round 0.025 smd: 1(-0.7,0) 2(0.7,0)
Top Layer:
  region: 0.408,-0.495 0.993,-0.495 1.012,-0.495 1.048,-0.48 1.075,-0.453 1.09,-0.417 1.09,-0.398 1.09,-0.397 1.09,0.397 1.09,0.417 1.075,0.453 1.048,0.48 1.012,0.495 0.993,0.495 0.408,0.495 0.388,0.495 0.352,0.48 0.325,0.453 0.31,0.417 0.31,0.397 0.31,0.3 0.25,0.3 0.24,0.3 0.222,0.292 0.208,0.278 0.2,0.26 0.2,0.25 0.2,-0.25 0.2,-0.26 0.208,-0.278 0.222,-0.292 0.24,-0.3 0.25,-0.3 0.31,-0.3 0.31,-0.397 0.31,-0.417 0.325,-0.453 0.352,-0.48 0.388,-0.495
  region: -0.408,-0.495 -0.992,-0.495 -1.012,-0.495 -1.048,-0.48 -1.075,-0.453 -1.09,-0.417 -1.09,-0.398 -1.09,-0.397 -1.09,0.397 -1.09,0.417 -1.075,0.453 -1.048,0.48 -1.012,0.495 -0.993,0.495 -0.992,0.495 -0.407,0.495 -0.388,0.495 -0.352,0.48 -0.325,0.453 -0.31,0.417 -0.31,0.397 -0.31,0.3 -0.25,0.3 -0.24,0.3 -0.222,0.292 -0.208,0.278 -0.2,0.26 -0.2,0.25 -0.2,-0.25 -0.2,-0.26 -0.208,-0.278 -0.222,-0.292 -0.24,-0.3 -0.25,-0.3 -0.31,-0.3 -0.31,-0.397 -0.31,-0.417 -0.325,-0.453 -0.352,-0.48 -0.388,-0.495
Top Overlay:
  lines w0.15: -4.275,0 -4.14,0 ; 0,-0.475 0,0.475 ; 1.54,0 1.675,0 ; -4.092,-0.764 ccw(c-3.838,-0.764) -3.838,-1.018 -3.457,-1.018 -3.239,-0.8 0.639,-0.8 0.857,-1.018 1.238,-1.018 ccw(c1.238,-0.764) 1.492,-0.764 1.492,0.764 ccw(c1.238,0.764) 1.238,1.018 0.857,1.018 0.639,0.8 -3.239,0.8 -3.457,1.018 -3.838,1.018 ccw(c-3.838,0.764) -4.092,0.764 -4.092,-0.764
  text ".Comment" at -4.487,-0.383 h1.3
Top Designator:
  text ".Designator" at -2.503,-0.266 h1.3
Mechanical 13:
  lines w0.15: -0.7,-0.325 -0.7,0.325 0.7,0.325 0.7,-0.325 -0.7,-0.325
Mechanical 15:
  lines w0.003: -0.275,0.127 -0.274,0.127
  lines w0.15: -0.5,0 0.5,0 ; 0,-0.5 0,0.5 ; -5.95,-1.175 -5.95,1.175 3.35,1.175 3.35,-1.175 -5.95,-1.175
3D body "Ðåçèñòîð Âûâîäíîé Ãîðèçîíòàëüíûé 470 Îì.stp": height 2.41, standoff -1.5, extent -5.325,-1.167 2.725,1.167

## RES_THD/SMD_R0603_R0402_680K_SMD [mm] "Resistor, Through Hole"
pads (4):
  round 1.3 hole 0.45: 1(-5.11,0) 2(2.51,0)
  round 0.025 smd: 1(-0.7,0) 2(0.7,0)
Top Layer:
  region: 0.408,-0.495 0.993,-0.495 1.012,-0.495 1.048,-0.48 1.075,-0.453 1.09,-0.417 1.09,-0.398 1.09,-0.397 1.09,0.397 1.09,0.417 1.075,0.453 1.048,0.48 1.012,0.495 0.993,0.495 0.408,0.495 0.388,0.495 0.352,0.48 0.325,0.453 0.31,0.417 0.31,0.397 0.31,0.3 0.25,0.3 0.24,0.3 0.222,0.292 0.208,0.278 0.2,0.26 0.2,0.25 0.2,-0.25 0.2,-0.26 0.208,-0.278 0.222,-0.292 0.24,-0.3 0.25,-0.3 0.31,-0.3 0.31,-0.397 0.31,-0.417 0.325,-0.453 0.352,-0.48 0.388,-0.495
  region: -0.408,-0.495 -0.992,-0.495 -1.012,-0.495 -1.048,-0.48 -1.075,-0.453 -1.09,-0.417 -1.09,-0.398 -1.09,-0.397 -1.09,0.397 -1.09,0.417 -1.075,0.453 -1.048,0.48 -1.012,0.495 -0.993,0.495 -0.992,0.495 -0.407,0.495 -0.388,0.495 -0.352,0.48 -0.325,0.453 -0.31,0.417 -0.31,0.397 -0.31,0.3 -0.25,0.3 -0.24,0.3 -0.222,0.292 -0.208,0.278 -0.2,0.26 -0.2,0.25 -0.2,-0.25 -0.2,-0.26 -0.208,-0.278 -0.222,-0.292 -0.24,-0.3 -0.25,-0.3 -0.31,-0.3 -0.31,-0.397 -0.31,-0.417 -0.325,-0.453 -0.352,-0.48 -0.388,-0.495
Top Overlay:
  lines w0.15: -4.275,0 -4.14,0 ; 0,-0.475 0,0.475 ; 1.54,0 1.675,0 ; -4.092,-0.764 ccw(c-3.838,-0.764) -3.838,-1.018 -3.457,-1.018 -3.239,-0.8 0.639,-0.8 0.857,-1.018 1.238,-1.018 ccw(c1.238,-0.764) 1.492,-0.764 1.492,0.764 ccw(c1.238,0.764) 1.238,1.018 0.857,1.018 0.639,0.8 -3.239,0.8 -3.457,1.018 -3.838,1.018 ccw(c-3.838,0.764) -4.092,0.764 -4.092,-0.764
  text ".Comment" at -4.487,-0.383 h1.3
Top Designator:
  text ".Designator" at -2.503,-0.266 h1.3
Mechanical 13:
  lines w0.15: -0.7,-0.325 -0.7,0.325 0.7,0.325 0.7,-0.325 -0.7,-0.325
Mechanical 15:
  lines w0.003: -0.275,0.127 -0.274,0.127
  lines w0.15: -0.5,0 0.5,0 ; 0,-0.5 0,0.5 ; -5.95,-1.175 -5.95,1.175 3.35,1.175 3.35,-1.175 -5.95,-1.175
3D body "R0603 - 680 kOhm.stp": height 0.46, standoff 0, extent -0.8,-0.4 0.8,0.4